# EAGLE library part VREG_SWITCHING_LMZ10501 (library PiB_ic_power)
LMZ10501 Nano Series Switching Power IC
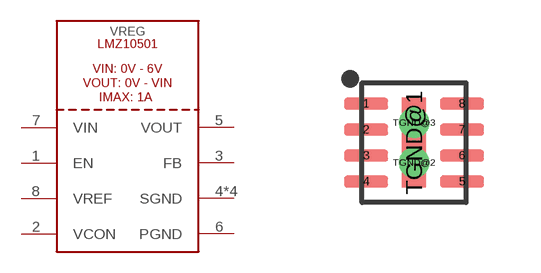
[diagram p3: symbol with the pads of SIL0008A-1.5; footprint SIL0008A-1.5]

Designator prefix VREG

## VREG_SWITCHING_LMZ10501-SIL0008A (CREATOR: Kenmei; DATASHEET: http://www.ti.com/lit/ds/symlink/lmz10501.pdf; DIST: Digikey; DISTLINK: https://www.digikey.com/product-detail/en/texas-instruments/LMZ10501SILT/296-37266-1-ND/4701628; DISTPN: 296-37266-1-ND; MFR: Texas Instruments; MPN: LMZ10501SILT; TESTED: NO; VALUE: 0V-6V/1A)  [SIL0008A-1.5]
1  EN
2  VCON
3  FB
4  SGND
5  VOUT
6  PGND
7  VIN
8  VREF
TGND@1  SGND
TGND@2  SGND
TGND@3  SGND

## Footprint SIL0008A-1.5 (pad centres in mm)
smd 1.1 x 0.3: 1 -1.2,0.975; 2 -1.2,0.325; 3 -1.2,-0.325; 4 -1.2,-0.975; 5 1.2,-0.975; 6 1.2,-0.325; 7 1.2,0.325; 8 1.2,0.975
smd 0.6 x 2.25: TGND@1 0,0
drill 0.254 pad 0.381: TGND@2 0,-0.5; TGND@3 0,0.5